# Altium integrated library TB003-500-P02BE.IntLib: 1 symbol
Pins are listed as number, name and electrical type; pins without a type are passive.

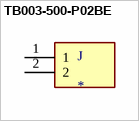
[diagram p0: symbol TB003-500-P02BE]

## TB003-500-P02BE
designator J
2~24 Poles, Screw Type, Horizontal, 5.0 Pitch, 26~14 _AWG_, Terminal Block Connector; MP: TB003-500-P02BE; MF: CUI Devices; Availability: Unavailable; Package: None; SnapEDA_Link: https://www.snapeda.com/parts/TB003-500-P02BE/CUI%20Devices/view-part/3590637/?ref=snap; Price: None; Value: *
footprint CUI_TB003-500-P02BE
pins: 1, 2